# Altium schematic symbol library Резисторы-1.SchLib: 3 symbols
Pins are listed as number, name and electrical type; pins without a type are passive.

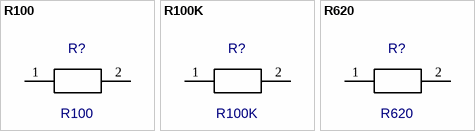
[diagram p0: symbols R100 to R620]

## R100
designator R?
Value: *
footprint R100
pins: 1, 2

## R100K
designator R?
Value: *
footprint R100
pins: 1, 2

## R620
designator R?
Value: *
footprint R100
pins: 1, 2